# Altium schematic symbol library Connectors.SchLib: 43 symbols
Pins are listed as number, name and electrical type; pins without a type are passive.

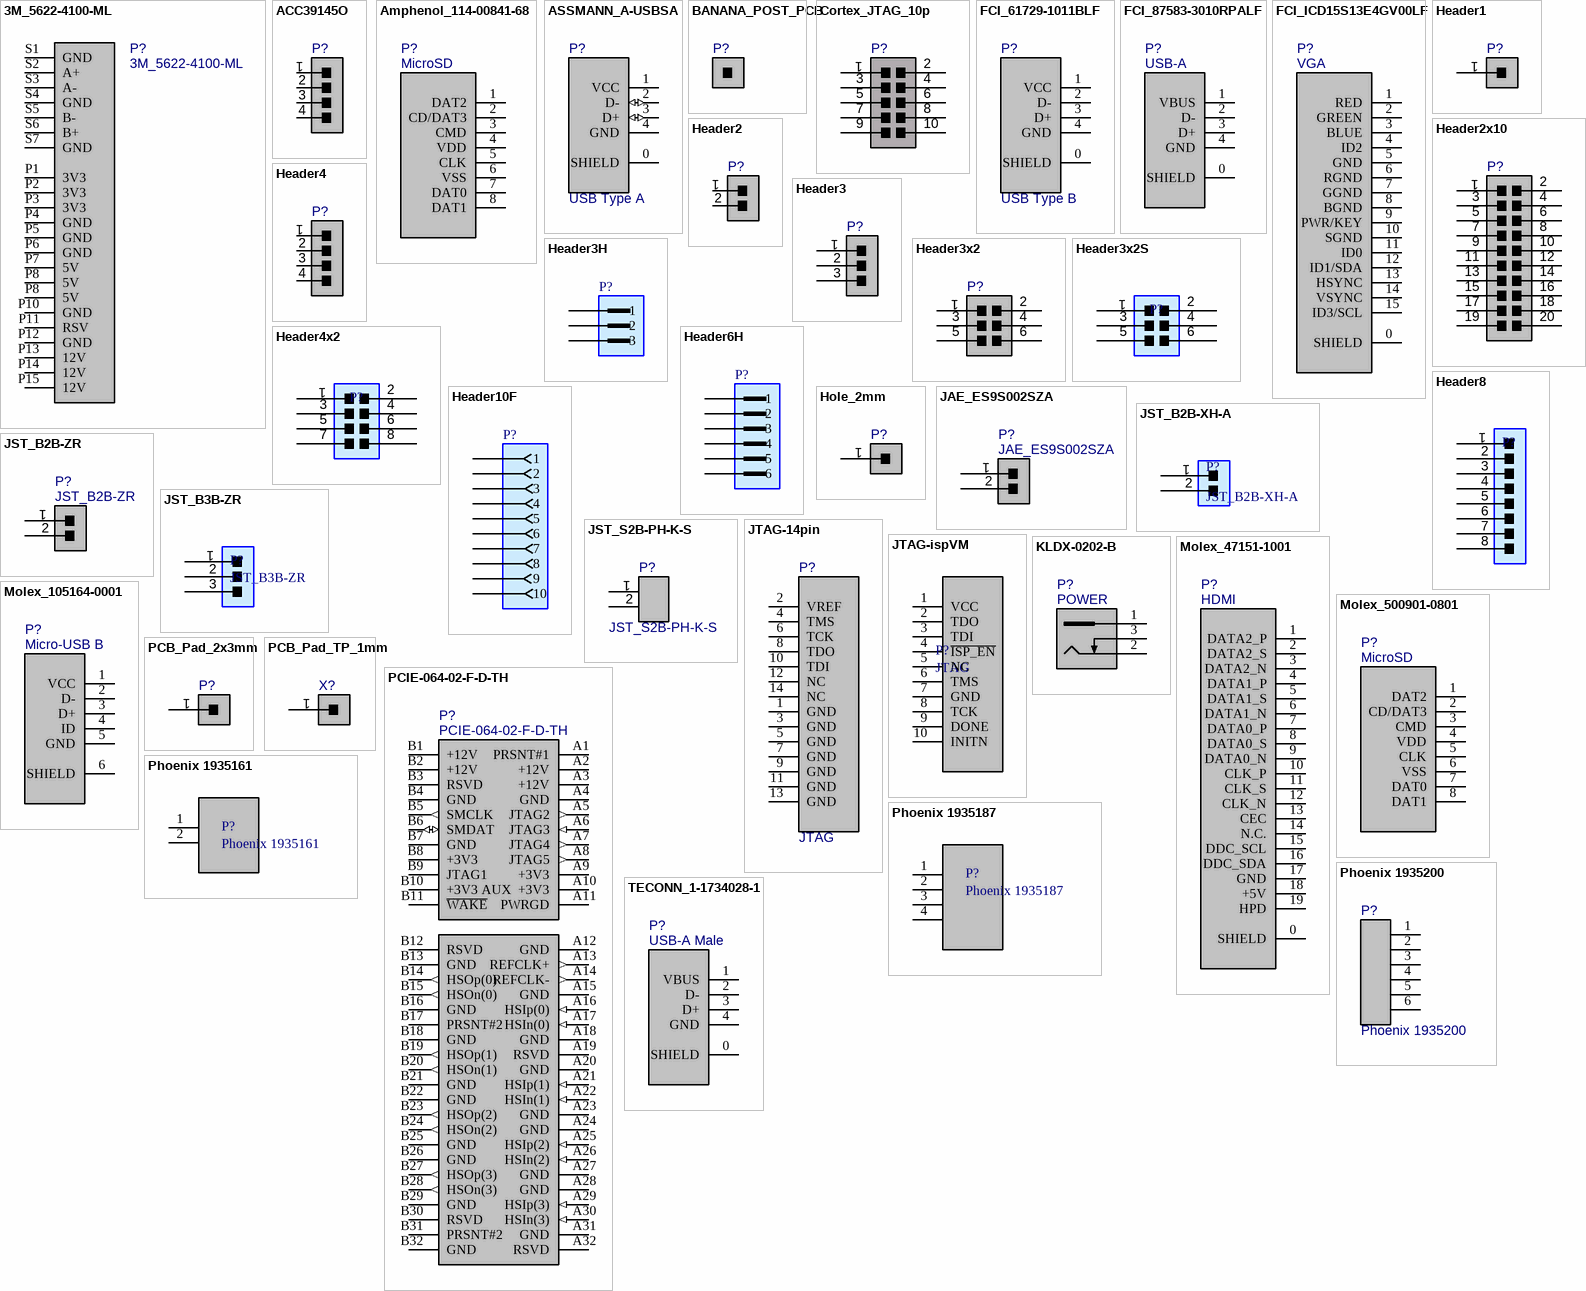
[diagram p0: symbols 3M_5622-4100-ML to TECONN_1-1734028-1]

## 3M_5622-4100-ML
designator P?
SATA Combo Connector 22pos; Manufacturer 1: 3M; Contacts: 22; Mounting Angle: Horizontal; Pitch: 1.27mm; ComponentLink1Description: Datasheet; Created: 2014-01-24; Last Updated: 2014-01-24; Manufacturer Part Number 1: 5622-4100-ML; Mounting Style: Through-hole; Supplier 1: Farnell; Supplier Part Number 1: 1839030
footprint 5622-4100-ML (SATA Combo connector)
pins: P1 3V3, P2 3V3, P3 3V3, P4 GND, P5 GND, P6 GND, P7 5V, P8 5V, P8 5V, P10 GND, P11 RSV, P12 GND, P13 12V, P14 12V, P15 12V, S1 GND, S2 A+, S3 A-, S4 GND, S5 B-, S6 B+, S7 GND

## ACC39145O
designator P?  (value not drawn)
Grove 4-pin standard connector; Contacts: 4; Mounting Angle: Vertical; Pitch: 2.00mm; Created: 2015-02-04; Last Updated: 2015-02-04; Mounting Style: Through-hole; ComponentLink1Description: Datasheet
footprint ACC39145O (Grove standard 4-pin connector)
pins: 1, 2, 3, 4

## Amphenol_114-00841-68
designator P?, comment MicroSD
MicroSD push memory card connector; Manufacturer 1: Amphenol; Manufacturer Part Number 1: 114-00841-68; Contacts: 8; Mounting Angle: Horizontal; Pitch: 1.1mm; Last Updated: 2015-02-04; Supplier Part Number 1: 2293708; Supplier 1: Farnell; Created: 2015-02-04; Mounting Style: SMD; ComponentLink1Description: Datasheet
footprint AMPHENOL_114-00841-68 (MicroSD push memory card connector)
pins: 1 DAT2, 2 CD/DAT3, 3 CMD, 4 VDD (power), 5 CLK, 6 VSS (power), 7 DAT0, 8 DAT1
1 alternate drawing of the same symbol

## ASSMANN_A-USBSA
designator P?, comment USB Type A
USB Connectors 4P R/A RECEPTACLE STYLE A; Manufacturer 1: ASSMANN; Contacts: 4; Mounting Angle: Horizontal; Pitch: 2.5mm; ComponentLink1Description: Datasheet; Created: 2014-05-19; Last Updated: 2014-05-19; Mounting Style: Through-hole
footprint SANDERPASVEER-USB-A
pins: 0 SHIELD, 1 VCC (power), 2 D- (io), 3 D+ (io), 4 GND (power)

## BANANA_POST_PCB
designator P?, comment Header 1  (value not drawn)
Banana post PCB mounted; Contacts: 1; Mounting Angle: Vertical; Created: 2013-09-28; Last Updated: 2013-09-28; Mounting Style: Through-hole; ComponentLink1Description: Datasheet
footprint BANANA_POST (Johnsen / Emerson 111-010X-001)

## Cortex_JTAG_10p
designator P?, comment JTAG  (value not drawn)
Cortex 10 pin JTAG connector; Contacts: 10; Mounting Angle: Vertical; Pitch: 1.27mm; Supplier 1: Mouser; Created: 2014-08-30; Last Updated: 2014-08-30; Mounting Style: SMD; ComponentLink1Description: Datasheet
footprint FCI_20021121-00010C4LF
pins: 1, 2, 3, 4, 5, 6, 7, 7, 8, 8
text: 9

## FCI_61729-1011BLF
designator P?, comment USB Type B
USB Connectors 4P R/A RECEPTACLE STYLE B; Manufacturer 1: FCI; Manufacturer Part Number 1: 61729-1011BLF; Contacts: 4; Mounting Angle: Horizontal; Pitch: 2.5mm; ComponentLink1Description: Datasheet; ComponentLink1URL: http://www.mouser.com/ds/2/154/61729-82870.pdf; Created: 2013-10-17; Last Updated: 2014-05-07; Mounting Style: Through-hole; Supplier 1: Mouser; Supplier Part Number 1: 649-61729-1011BLF
footprint 61729-1011BLF (USB Connectors 4P R/A RECEPTACLE STYLE B)
pins: 0 SHIELD, 1 VCC, 2 D-, 3 D+, 4 GND

## FCI_87583-3010RPALF
designator P?, comment USB-A
USB Type A; Manufacturer 1: FCI; Manufacturer Part Number 1: 87583-3010RPALF; Contacts: 4; Mounting Angle: Horizontal; ComponentLink1Description: Datasheet; Created: 2015-04-19; Last Updated: 2015-04-19; Mounting Style: SMD; Supplier 1: Mouser; Supplier Part Number 1: 649-87583-3010RPALF
footprint FCI_87583 (USB Type A receptacle)
pins: 0 SHIELD, 1 VBUS, 2 D-, 3 D+, 4 GND

## FCI_ICD15S13E4GV00LF
designator P?, comment VGA
VGA Receptacle; Manufacturer 1: FCI; Manufacturer Part Number 1: ICD15S13E4GV00LF; Contacts: 15; Mounting Angle: Horizontal; ComponentLink1Description: Datasheet; Created: 2014-05-16; Last Updated: 2014-05-16; Mounting Style: Through-hole; Supplier 1: Mouser
footprint FCI_ICD15S13E4GV00LF (DSUB-15 (VGA connector))
pins: 0 SHIELD, 1 RED "Red Video (75 ohm, 0.7V p-p)", 2 GREEN "Green Video (75 ohm, 0.7V p-p)", 3 BLUE "Blue Video (75 ohm, 0.7V p-p)", 4 ID2 "Monitor ID Bit 2", 5 GND "Ground", 6 RGND "Reg Ground", 7 GGND "Green Ground", 8 BGND "Blue Ground", 9 PWR/KEY "Not connected", 10 SGND "Sync Ground", 11 ID0 "Monitor ID Bit 0 (GND=Color; NC=Mono)", 12 ID1/SDA "Monitor ID Bit 1 (NC=Color; GND=Mono)", 13 HSYNC "Horizontal Sync (or Composite Sync)", 14 VSYNC "Vertical Sync", 15 ID3/SCL "Monitor ID Bit 3"

## Header1
designator P?, comment Header 1  (value not drawn)
A pin; Contacts: 1; Mounting Angle: Vertical; Created: 2013-09-28; Last Updated: 2013-09-28; Mounting Style: Through-hole; ComponentLink1Description: Datasheet
footprint IDC1
pins: 1

## Header2
designator P?  (value not drawn)
Header 2, Unshrouded; Contacts: 2; Mounting Angle: Vertical; Pitch: 2.54mm; Supplier 1: Mouser; Created: 2013-09-28; Last Updated: 2014-02-10; Mounting Style: Through-hole; ComponentLink1Description: Datasheet
footprint IDC2
pins: 1, 2

## Header2x10
designator P?, comment Header 20p  (value not drawn)
Header 2x10, Unshrouded; Contacts: 20; Mounting Angle: Vertical; Pitch: 2.54mm; Created: 2015-01-16; Last Updated: 2015-01-16; Mounting Style: Through-hole; ComponentLink1Description: Datasheet
footprint IDC 2.54 2x10 VER
pins: 1, 2, 3, 4, 5, 6, 7, 8, 9, 10, 11, 12, 13, 14, 15, 16, 17, 18, 19, 20

## Header3
designator P?  (value not drawn)
Header 3, Unshrouded; Contacts: 3; Mounting Angle: Vertical; Pitch: 2.54mm; Created: 2013-09-28; Last Updated: 2014-02-11; Mounting Style: Through-hole; ComponentLink1Description: Datasheet
footprint IDC3
pins: 1, 2, 3

## Header3H
designator P?  (value not drawn)
Header, 3-Pin, Right Angle, Semi Shrouded; Contacts: 3; Mounting Angle: Horizontal; Pitch: 2.54mm; Supplier Part Number 1: 571-6404553; Supplier 1: Mouser; Created: 2013-09-28; Last Updated: 2013-09-28; Mounting Style: Through-hole; ComponentLink1Description: Datasheet
footprint HDR1X3 (Connector; Header; 3 Position)
signal-integrity model Connector
footprint HEADER3H
pins: 1, 2, 3

## Header3x2
designator P?  (value not drawn)
Header 2x3, Unshrouded; Contacts: 6; Mounting Angle: Vertical; Pitch: 2.54mm; Supplier 1: Mouser; Supplier Part Number 1: 538-70287-1001; Created: 2013-09-28; Last Updated: 2014-02-10; Mounting Style: Through-hole; ComponentLink1Description: Datasheet
footprint IDC2x3
pins: 1, 2, 3, 4, 5, 6

## Header3x2S
designator P?  (value not drawn)
Header 2x3, Shrouded; Contacts: 6; Mounting Angle: Vertical; Pitch: 2.54mm; Supplier 1: Mouser; Supplier Part Number 1: 649-75869-131LF; Created: 2013-09-28; Last Updated: 2013-09-28; Mounting Style: Through-hole; ComponentLink1Description: Datasheet
footprint IDC 2.54 2x3 VER SHR (IDC Header, pitch 2.54mm, 2x3pins Vertical mounted, Shrouded)
pins: 1, 2, 3, 4, 5, 6

## Header4
designator P?  (value not drawn)
Header 4, Unshrouded; Contacts: 4; Mounting Angle: Vertical; Pitch: 2.54mm; Created: 2013-09-28; Last Updated: 2014-06-09; Mounting Style: Through-hole; ComponentLink1Description: Datasheet
footprint IDC4
pins: 1, 2, 3, 4

## Header4x2
designator P?  (value not drawn)
Header 4x2, Unshrouded; Contacts: 8; Mounting Angle: Vertical; Pitch: 2.54mm; Supplier 1: Mouser; Supplier Part Number 1: 649-75869-132LF; Created: 2013-09-28; Last Updated: 2013-09-28; Mounting Style: Through-hole; ComponentLink1Description: Datasheet
footprint IDC 2.54 2x4 VER SHR (IDC Header, pitch 2.54mm, 2x4pins Vertical mounted, Shrouded)
pins: 1, 2, 3, 4, 5, 6, 7, 8

## Header6H
designator P?  (value not drawn)
Header, 6-Pin, Right Angle; Contacts: 6; Mounting Angle: Horizontal; Pitch: 2.54mm; Supplier 1: Mouser; Supplier Part Number 1: 649-68016-106HLF; Last Updated: 2013-09-28; Created: 2013-09-28; Mounting Style: Through-hole; ComponentLink1Description: Datasheet
footprint HDR1X6 (Connector; Header; 6 Position)
signal-integrity model Connector
footprint HEADER6H
pins: 1, 2, 3, 4, 5, 6

## Header8
designator P?  (value not drawn)
Header 8, Unshrouded; Contacts: 8; Mounting Angle: Vertical; Pitch: 2.54mm; Supplier 1: Mouser; Created: 2013-09-28; Last Updated: 2013-09-28; Mounting Style: Through-hole; ComponentLink1Description: Datasheet
footprint IDC8
pins: 1, 2, 3, 4, 5, 6, 7, 8

## Header10F
designator P?  (value not drawn)
Header, 10-Pin, Female; Contacts: 10; Mounting Angle: Vertical; Pitch: 2.54mm; Supplier 1: Mouser; Supplier Part Number 1: 517-950510-6102-AR; Created: 2013-09-28; Last Updated: 2013-10-18; Mounting Style: Through-hole; ComponentLink1Description: Datasheet
footprint IDC10
pins: 1, 2, 3, 4, 5, 6, 7, 8, 9, 10

## Hole_2mm
designator P?, comment Hole1  (value not drawn)
2mm hole; Contacts: 1; Created: 2014-09-24; Last Updated: 2014-09-24; ComponentLink1Description: Datasheet
footprint HOLE_2MM (Solder connection)
pins: 1

## JAE_ES9S002SZA
designator P?
Lighting Connectors ES9 2 Pin Socket 3.0mm Pitch; Manufacturer 1: JAE; Contacts: 2; Mounting Angle: Vertical; Pitch: 2.54mm; Supplier 1: Mouser; Supplier Part Number 1: 656-ES9S002SZA; Created: 2014-02-19; Last Updated: 2014-02-19; Mounting Style: Through-hole; ComponentLink1Description: Datasheet; Manufacturer Part Number 1: ES9S002SZA
footprint JAE_ES9S002SZA (Lighting Connectors ES9 2 Pin Socket 3.0mm Pitch)
pins: 1, 2

## JST_B2B-XH-A
designator P?
JST Shrouded header 2.5mm pitch; Contacts: 2; Mounting Angle: Vertical; Supplier 1: *; Supplier Part Number 1: *; Manufacturer 1: JST; Manufacturer Part Number 1: B2B-XH-A; Last Updated: 2013-09-28; Created: 2013-09-28; Mounting Style: Through-hole; ComponentLink1Description: Datasheet
footprint JST B2B-XH-A
pins: 1, 2

## JST_B2B-ZR
designator P?
JST Shrouded header 1.5mm pitch; Contacts: 2; Mounting Angle: Vertical; Supplier 1: DigiKey; Supplier Part Number 1: 455-1657-ND; Manufacturer 1: JST; Manufacturer Part Number 1: JST_B2B-ZR; Last Updated: 2014-09-01; Created: 2014-09-01; Mounting Style: Through-hole; ComponentLink1Description: Datasheet
footprint JST_B2B-ZR
pins: 1, 2

## JST_B3B-ZR
designator P?
1.5mm pitch/Disconnectable Crimp style connector; Manufacturer 1: JST; Manufacturer Part Number 1: B3B-ZR; Contacts: 3; Mounting Angle: Vertical; Supplier 1: RS; Supplier Part Number 1: 762-0819; Created: 2013-09-28; Last Updated: 2013-09-28; Mounting Style: Through-hole; ComponentLink1Description: Datasheet
footprint JST_B3B-ZR
pins: 1, 2, 3

## JST_S2B-PH-K-S
designator P?
JST Shrouded header 2mm pitch; Contacts: 2; Mounting Angle: Horizontal; Manufacturer 1: JST; Manufacturer Part Number 1: S2B-PH-K-S; Last Updated: 2015-04-08; Created: 2015-04-08; Mounting Style: Through-hole; ComponentLink1Description: Datasheet
footprint JST_S2B-PH-K-S
pins: 1, 2

## JTAG-14pin
designator P?, comment JTAG
JTAG Header; Contacts: 10; Mounting Angle: Vertical; Pitch: 2.54mm; ComponentLink1Description: Datasheet; Created: 2014-06-01; Last Updated: 2014-06-01; Mounting Style: Through-hole
footprint IDC 2.54 2x7 VER SHR (IDC Header, pitch 2.54mm, 2x7pins Vertical mounted, Shrouded)
pins: 1 GND (power), 2 VREF, 3 GND (power), 4 TMS, 5 GND (power), 6 TCK, 7 GND (power), 8 TDO, 9 GND (power), 10 TDI, 11 GND (power), 12 NC, 13 GND (power), 14 NC

## JTAG-ispVM
designator P?, comment JTAG
JTAG Header (ispVM); Contacts: 10; Mounting Angle: Vertical; Pitch: 2.54mm; ComponentLink1Description: Datasheet; Created: 2013-10-18; Last Updated: 2013-10-18; Mounting Style: Through-hole
footprint IDC10
pins: 1 VCC, 2 TDO, 3 TDI, 4 ~{ISP_EN}, 5 NC, 6 TMS, 7 GND, 8 TCK, 9 DONE, 10 INITN

## KLDX-0202-B
designator P?, comment POWER
DC Power Connectors 2.5mm PCB; Manufacturer 1: Kycon; Manufacturer Part Number 1: KLDX-0202-B; Contacts: 3; Mounting Angle: Horizontal; Last Updated: 2014-06-20; Supplier Part Number 1: 806-KLDX-0202-B; Supplier 1: Mouser; Created: 2014-06-20; Mounting Style: Through-hole; ComponentLink1Description: Datasheet
footprint KLDX-0202 (Kycon DC Power Connectors 2.5mm PCB)
pins: 1, 2, 3

## Molex_47151-1001
designator P?, comment HDMI
HDMI Receptacle; Manufacturer 1: Molex; Manufacturer Part Number 1: 47151-1001; Contacts: 19; Mounting Angle: Horizontal; Pitch: 0.5mm; ComponentLink1Description: Datasheet; Created: 2014-05-07; Last Updated: 2014-05-07; Mounting Style: Through-hole
footprint MOLEX_47151-0001 (Molex HDMI right angle header assembly)
pins: 0 SHIELD, 1 DATA2_P, 2 DATA2_S, 3 DATA2_N, 4 DATA1_P, 5 DATA1_S, 6 DATA1_N, 7 DATA0_P, 8 DATA0_S, 9 DATA0_N, 10 CLK_P, 11 CLK_S, 12 CLK_N, 13 CEC, 14 N.C., 15 DDC_SCL, 16 DDC_SDA, 17 GND, 18 +5V, 19 HPD

## Molex_105164-0001
designator P?, comment Micro-USB B
Micro-USB B Receptacle without Flange, Top Mount, SMT, Lead-Free; Manufacturer 1: Molex; Manufacturer Part Number 1: 105164-0001; Contacts: 7; Mounting Angle: Horizontal; Pitch: 0.65mm; Last Updated: 2014-02-11; Supplier Part Number 1: 538-105164-0001; Supplier 1: Mouser; Created: 2013-09-28; Mounting Style: SMD/Through-hole; ComponentLink1Description: Datasheet; ComponentLink1URL: http://www.molex.com/pdm_docs/sd/1051640001_sd.pdf
footprint Molex_105164-0001
pins: 1 VCC (power), 2 D-, 3 D+, 4 ID, 5 GND, 6 SHIELD

## Molex_500901-0801
designator P?, comment MicroSD
MicroSD hinged memory card connector; Manufacturer 1: Molex; Manufacturer Part Number 1: 500901-0801; Contacts: 8; Mounting Angle: Horizontal; Pitch: 1.1mm; Last Updated: 2014-05-30; Supplier Part Number 1: 538-500901-0801; Supplier 1: Mouser; Created: 2014-05-30; Mounting Style: SMD; ComponentLink1Description: Datasheet
footprint MOLEX_500901-0801 (MicroSD hinged memory card connector)
pins: 1 DAT2, 2 CD/DAT3, 3 CMD, 4 VDD (power), 5 CLK, 6 VSS (power), 7 DAT0, 8 DAT1

## PCB_Pad_2x3mm
designator P?, comment SMD Pad  (value not drawn)
PCB Pad 2mm X 3mm with vias; Contacts: 1; Mounting Angle: Vertical; Created: 2014-02-19; Last Updated: 2014-02-19; Mounting Style: SMD; ComponentLink1Description: Datasheet
footprint PCB_PAD_2x6mm (SMD Solder pad 2mm X 6mm)
pins: 1

## PCB_Pad_TP_1mm
designator X?, comment TP  (value not drawn)
Tespoint; Contacts: 1; ComponentLink1Description: Datasheet; Created: 2014-03-05; Last Updated: 2014-03-05
footprint PCB_PAD_TP_1mm (SMD Testpoint 1mm diameter)
pins: 1

## PCIE-064-02-F-D-TH
designator P?
PCI Express 32 rows; Manufacturer 1: Samtec; Contacts: 64; Mounting Angle: Vertical; Pitch: 1.0mm; ComponentLink1Description: Datasheet; Created: 2014-01-20; Last Updated: 2014-01-20; Manufacturer Part Number 1: PCIE-064-02-F-D-TH; Mounting Style: Through-hole; Supplier 1: Farnell; Supplier Part Number 1: 1753907
footprint PCIE-064-02-F-D-TH (PCIe X4 connector)
pins: A1 PRSNT#1, A2 +12V (power), A3 +12V (power), A4 GND (power), A5 JTAG2 (out) "TCK", A6 JTAG3 (in) "TDI", A7 JTAG4 (out) "TDO", A8 JTAG5 (out) "TMS", A9 +3V3 (power), A10 +3V3 (power), A11 PWRGD "Power good", A12 GND (power), A13 REFCLK+ (out), A14 REFCLK- (out), A15 GND (power), A16 HSIp(0) (in), A17 HSIn(0) (in), A18 GND (power), A19 RSVD "Reserverd, do not connect", A20 GND (power), A21 HSIp(1) (in) "Hotplug detect", A22 HSIn(1) (in) "Hotplug detect", A23 GND (power), A24 GND (power), A25 HSIp(2) (in) "Hotplug detect", A26 HSIn(2) (in) "Hotplug detect", A27 GND (power), A28 GND (power), A29 HSIp(3) (in) "Hotplug detect", A30 HSIn(3) (in) "Hotplug detect", A31 GND (power), A32 RSVD "Reserverd, do not connect", B1 +12V (power), B2 +12V (power), B3 RSVD "Reserved, do not connect", B4 GND (power), B5 SMCLK (out), B6 SMDAT (io), B7 GND (power), B8 +3V3 (power), B9 JTAG1 "+TRST#", B10 +3V3 AUX (power), B11 ~{WAKE} (power) "Link reactivation", B12 RSVD "Reserverd, do not connect", B13 GND (power), B14 HSOp(0) (out), B15 HSOn(0) (out), B16 GND (power), B17 PRSNT#2 "Hotplug detect", B18 GND (power), B19 HSOp(1) (out), B20 HSOn(1) (out), B21 GND (power), B22 GND (power), B23 HSOp(2) (out), B24 HSOn(2) (out), B25 GND (power), B26 GND (power), B27 HSOp(3) (out), B28 HSOn(3) (out), B29 GND (power), B30 RSVD "Reserverd, do not connect", B31 PRSNT#2 "Hotplug detect", B32 GND (power)

## Phoenix 1935161
designator P?
Fixed Terminal Blocks PT 1.5/4-5.0-H; Contacts: 4; Mounting Angle: Horizontal; Pitch: 5.0mm; ComponentLink1Description: Datasheet; ComponentLink1URL: http://nl.mouser.com/catalogviewer/default.aspx?page=1417&highlight=651-1935200&catalogculture=en-GB&catalog=102; Created: 2013-11-19; Last Updated: 2013-11-19; Manufacturer 1: Phoenix; Manufacturer Part Number 1: 1935161; Mounting Style: Through-hole; Supplier 1: Mouser; Supplier Part Number 1: 651-1935161
footprint PHOENIX_1935161
pins: 1, 2

## Phoenix 1935187
designator P?
Fixed Terminal Blocks PT 1.5/4-5.0-H; Contacts: 4; Mounting Angle: Horizontal; Pitch: 5.0mm; ComponentLink1Description: Datasheet; ComponentLink1URL: http://nl.mouser.com/catalogviewer/default.aspx?page=1417&highlight=651-1935200&catalogculture=en-GB&catalog=102; Created: 2013-11-19; Last Updated: 2013-11-19; Manufacturer 1: Phoenix; Manufacturer Part Number 1: 1935187; Mounting Style: Through-hole; Supplier 1: Mouser; Supplier Part Number 1: 651-1935187
footprint PHOENIX_1935187
pins: 1, 2, 3, 4

## Phoenix 1935200
designator P?
Fixed Terminal Blocks PT 1.5/6-5.0-H; Contacts: 6; Mounting Angle: Horizontal; Pitch: 5.0mm; ComponentLink1Description: Datasheet; ComponentLink1URL: http://nl.mouser.com/catalogviewer/default.aspx?page=1417&highlight=651-1935200&catalogculture=en-GB&catalog=102; Created: 2013-11-19; Last Updated: 2013-11-19; Manufacturer 1: Phoenix; Manufacturer Part Number 1: 1935200; Mounting Style: Through-hole; Supplier 1: Mouser; Supplier Part Number 1: 651-1935200
footprint PHOENIX_1935200 (Fixed Terminal Blocks PT 1.5/6-5.0-H)
pins: 1, 2, 3, 4, 5, 6

## TECONN_1-1734028-1
designator P?, comment USB-A Male
USB Type A Male; Manufacturer 1: TE Connectivity; Manufacturer Part Number 1: 1-1734028-1; Contacts: 4; Mounting Angle: Horizontal; ComponentLink1Description: Datasheet; Created: 2015-04-19; Last Updated: 2015-04-28; Mounting Style: SMD; Supplier 1: Mouser; Supplier Part Number 1: 571-1-1734028-1
footprint TECONN_1-1734028-1 (USB Type A receptacle)
pins: 0 SHIELD, 1 VBUS, 2 D-, 3 D+, 4 GND

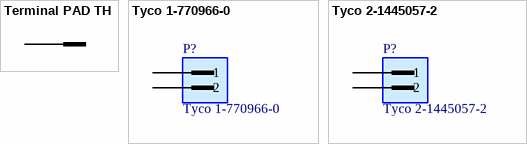
[diagram p1: symbols Terminal PAD TH to Tyco 2-1445057-2]

## Terminal PAD TH
designator X?  (value not drawn)
Through hole pad; Contacts: 1; Created: 2013-09-28; Last Updated: 2013-09-28; Mounting Style: Through-hole; ComponentLink1Description: Datasheet
footprint PAD TH 1.5mm 0.9mm (Pad through-hole OAR 1.5mm HOLE 0.9mm)
pins: 1

## Tyco 1-770966-0
designator P?
Tyco Mate n Lock Universal 2 pins; Wire Housing Part Number 1: Tyco 172165-1; Contacts: 2; Supplier 1: Mouser; Supplier Part Number 1: 571-1-770966-0; Terminal Part Number 1: 170362-1; Created: 2013-09-28; Last Updated: 2013-09-28; Manufacturer 1: Tyco; Manufacturer Part Number 1: 1-770966-0; ComponentLink1Description: Datasheet
footprint HDR1X2 (Connector; Header; 2 Position)
signal-integrity model Connector
footprint Tyco 1-770966-0
pins: 1, 2

## Tyco 2-1445057-2
designator P?
Tyco Mate n Lock 2 pins; Wire Housing Part Number 1: Tyco 1445022-2; Contacts: 2; Supplier 1: Mouser; Supplier Part Number 1: 571-2-1445057-2; Terminal Part Number 1: 1-794610-1; Created: 2013-09-28; Last Updated: 2013-09-28; Manufacturer 1: Tyco; Manufacturer Part Number 1: 2-1445057-2; ComponentLink1Description: Datasheet
footprint HDR1X2 (Connector; Header; 2 Position)
signal-integrity model Connector
footprint Tyco 2-1445057-2
pins: 1, 2